# EAGLE library part 687134183722 (library Eagle_FPC_CONNECTOR_AND_FFC_CAB (rev18c))
687134183722 WR-FPC 0.50mm SMT Horizontal Bottom Contact - Low Profile <http://katalog.we-online.de/media/images/v2/Family_WR-FPC_6871xx183722.jpg> Details see: http://katalog.we-online.de/en/em/FPC_0_5_SMT_ZIF_HORIZONTAL_BOTTOM_CONTACT_LOW_PROFILE_6871xx183722 Created by Yingchun,shan 2016 (C) Wurth Elektronik
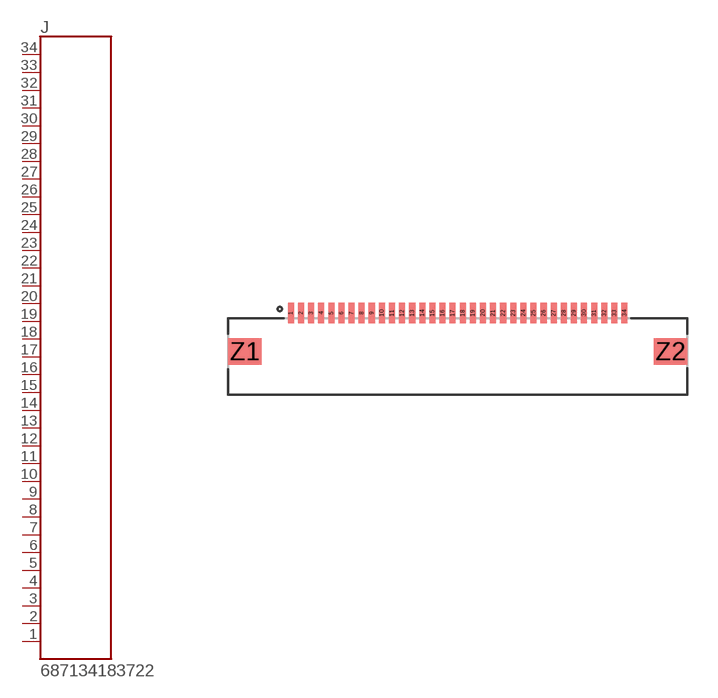
[diagram p210: symbol with the pads of 687134183722; footprint 687134183722]

Designator prefix J

## 687134183722  [687134183722]
1  34  pas
2  33  pas
3  32  pas
4  31  pas
5  30  pas
6  29  pas
7  28  pas
8  27  pas
9  26  pas
10  25  pas
11  24  pas
12  23  pas
13  22  pas
14  21  pas
15  20  pas
16  19  pas
17  18  pas
18  17  pas
19  16  pas
20  15  pas
21  14  pas
22  13  pas
23  12  pas
24  11  pas
25  10  pas
26  9  pas
27  8  pas
28  7  pas
29  6  pas
30  5  pas
31  4  pas
32  3  pas
33  2  pas
34  1  pas

## Footprint 687134183722 (pad centres in mm)
smd 0.3 x 1: 1 -8.25,1.9; 2 -7.75,1.9; 3 -7.25,1.9; 4 -6.75,1.9; 5 -6.25,1.9; 6 -5.75,1.9; 7 -5.25,1.9; 8 -4.75,1.9; 9 -4.25,1.9; 10 -3.75,1.9; 11 -3.25,1.9; 12 -2.75,1.9; 13 -2.25,1.9; 14 -1.75,1.9; 15 -1.25,1.9; 16 -0.75,1.9; 17 -0.25,1.9; 18 0.25,1.9; 19 0.75,1.9; 20 1.25,1.9; 21 1.75,1.9; 22 2.25,1.9; 23 2.75,1.9; 24 3.25,1.9; 25 3.75,1.9; 26 4.25,1.9; 27 4.75,1.9; 28 5.25,1.9; 29 5.75,1.9; 30 6.25,1.9; 31 6.75,1.9; 32 7.25,1.9; 33 7.75,1.9; 34 8.25,1.9
smd 1.65 x 1.3: Z1 -10.525,0; Z2 10.525,0